# Altium integrated library NSC Peripheral Disk Pulse Detector.IntLib: 5 symbols
Pins are listed as number, name and electrical type; pins without a type are passive.

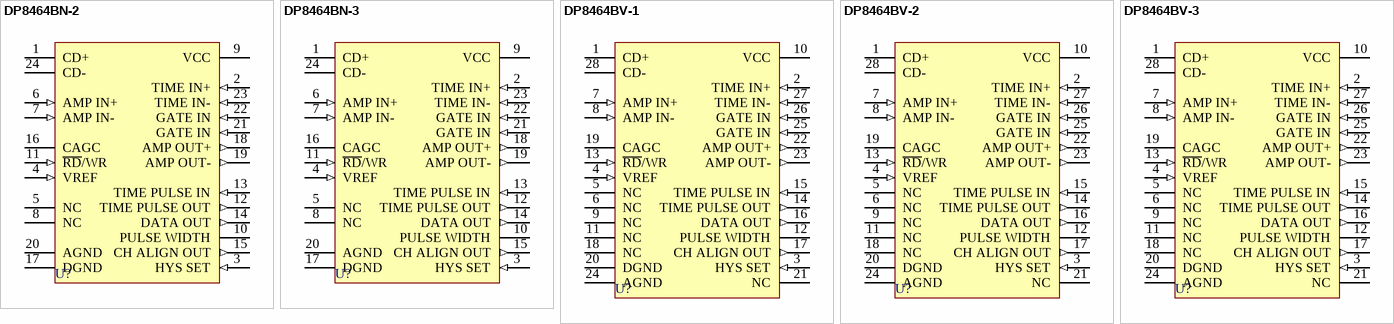
[diagram p0: symbols DP8464BN-2 to DP8464BV-3]

## DP8464BN-2
designator U?
Disk Pulse Detector; Published: 15-Apr-2002; LatestRevisionDate: 06-Jun-2005; LatestRevisionNote: Stylized 3D Model Added.; DatasheetVersion: Jun-1989; PackageVersion: 2000; PackageReference: N24C; Publisher: Altium Limited; PackageDescription: DIP; 24 Leads; Row Spacing 7.62 mm; Pitch 2.54 mm; Code_JEDEC: MS-001-AF; ComponentLink1Description: Manufacturer Link; ComponentLink1URL: http://www.national.com/
footprint N24C (DIP; 24 Leads; Row Spacing 7.62 mm; Pitch 2.54 mm)
3D model N24C (DIP; 24 Leads; Row Spacing 7.62 mm; Pitch 2.54 mm)
pins: 1 CD+, 2 TIME IN+ (in), 3 HYS SET (in), 4 VREF (in), 5 NC, 6 AMP IN+ (in), 7 AMP IN- (in), 8 NC, 9 VCC (power), 10 PULSE WIDTH, 11 ~{RD}/WR (in), 12 TIME PULSE OUT (out), 13 TIME PULSE IN (in), 14 DATA OUT (out), 15 CH ALIGN OUT (out), 16 CAGC, 17 DGND (power), 18 AMP OUT+ (out), 19 AMP OUT- (out), 20 AGND (power), 21 GATE IN (in), 22 GATE IN (in), 23 TIME IN- (in), 24 CD-

## DP8464BN-3
designator U?
Disk Pulse Detector; ComponentAvailability: Obsolete; Published: 15-Apr-2002; LatestRevisionDate: 06-Jun-2005; LatestRevisionNote: Stylized 3D Model Added.; DatasheetVersion: Jun-1989; PackageVersion: 2000; PackageReference: N24C; Publisher: Altium Limited; PackageDescription: DIP; 24 Leads; Row Spacing 7.62 mm; Pitch 2.54 mm; Code_JEDEC: MS-001-AF; ComponentLink1Description: Manufacturer Link; ComponentLink1URL: http://www.national.com/; ComponentLink2Description: Discontinuation Notice; ComponentLink2URL: http://www.national.com/obs/obsolescence.txt
footprint N24C (DIP; 24 Leads; Row Spacing 7.62 mm; Pitch 2.54 mm)
3D model N24C (DIP; 24 Leads; Row Spacing 7.62 mm; Pitch 2.54 mm)
pins: 1 CD+, 2 TIME IN+ (in), 3 HYS SET (in), 4 VREF (in), 5 NC, 6 AMP IN+ (in), 7 AMP IN- (in), 8 NC, 9 VCC (power), 10 PULSE WIDTH, 11 ~{RD}/WR (in), 12 TIME PULSE OUT (out), 13 TIME PULSE IN (in), 14 DATA OUT (out), 15 CH ALIGN OUT (out), 16 CAGC, 17 DGND (power), 18 AMP OUT+ (out), 19 AMP OUT- (out), 20 AGND (power), 21 GATE IN (in), 22 GATE IN (in), 23 TIME IN- (in), 24 CD-

## DP8464BV-1
designator U?
Disk Pulse Detector; ComponentAvailability: Obsolete; Published: 15-Apr-2002; LatestRevisionDate: 13-Apr-2006; LatestRevisionNote: IPC-7351 Footprint Added.; DatasheetVersion: Jun-1989; PackageVersion: 2000; PackageReference: V28A; Publisher: Altium Limited; PackageDescription: 28-Pin Leaded Chip Carrier 1.27 mm Pitch; Code_IPC: PLCC-28; ComponentLink1Description: Manufacturer Link; ComponentLink1URL: http://www.national.com/; ComponentLink2Description: Discontinuation Notice; ComponentLink2URL: http://www.national.com/obs/obsolescence.txt
footprint V28A_N (Leaded Chip Carrier, 28-Leads, Body 11.5x11.5mm, Pitch 1.27mm, IPC Medium Density)
footprint V28A_L (Leaded Chip Carrier, 28-Leads, Body 11.5x11.5mm, Pitch 1.27mm, IPC High Density)
footprint V28A_M (Leaded Chip Carrier, 28-Leads, Body 11.5x11.5mm, Pitch 1.27mm, IPC Low Density)
3D model DP8464-V28A (28-Pin Leaded Chip Carrier 1.27 mm Pitch)
pins: 1 CD+, 2 TIME IN+ (in), 3 HYS SET (in), 4 VREF (in), 5 NC, 6 NC, 7 AMP IN+ (in), 8 AMP IN- (in), 9 NC, 10 VCC (power), 11 NC, 12 PULSE WIDTH, 13 ~{RD}/WR (in), 14 TIME PULSE OUT (out), 15 TIME PULSE IN (in), 16 DATA OUT (out), 17 CH ALIGN OUT (out), 18 NC, 19 CAGC, 20 DGND (power), 21 NC, 22 AMP OUT+ (out), 23 AMP OUT- (out), 24 AGND (power), 25 GATE IN (in), 26 GATE IN (in), 27 TIME IN- (in), 28 CD-

## DP8464BV-2
designator U?
Disk Pulse Detector; ComponentAvailability: Obsolete; Published: 15-Apr-2002; LatestRevisionDate: 13-Apr-2006; LatestRevisionNote: IPC-7351 Footprint Added.; DatasheetVersion: Jun-1989; PackageVersion: 2000; PackageReference: V28A; Publisher: Altium Limited; PackageDescription: 28-Pin Leaded Chip Carrier 1.27 mm Pitch; Code_IPC: PLCC-28; ComponentLink1Description: Manufacturer Link; ComponentLink1URL: http://www.national.com/; ComponentLink2Description: Discontinuation Notice; ComponentLink2URL: http://www.national.com/obs/obsolescence.txt
footprint V28A_N (Leaded Chip Carrier, 28-Leads, Body 11.5x11.5mm, Pitch 1.27mm, IPC Medium Density)
footprint V28A_L (Leaded Chip Carrier, 28-Leads, Body 11.5x11.5mm, Pitch 1.27mm, IPC High Density)
footprint V28A_M (Leaded Chip Carrier, 28-Leads, Body 11.5x11.5mm, Pitch 1.27mm, IPC Low Density)
3D model DP8464-V28A (28-Pin Leaded Chip Carrier 1.27 mm Pitch)
pins: 1 CD+, 2 TIME IN+ (in), 3 HYS SET (in), 4 VREF (in), 5 NC, 6 NC, 7 AMP IN+ (in), 8 AMP IN- (in), 9 NC, 10 VCC (power), 11 NC, 12 PULSE WIDTH, 13 ~{RD}/WR (in), 14 TIME PULSE OUT (out), 15 TIME PULSE IN (in), 16 DATA OUT (out), 17 CH ALIGN OUT (out), 18 NC, 19 CAGC, 20 DGND (power), 21 NC, 22 AMP OUT+ (out), 23 AMP OUT- (out), 24 AGND (power), 25 GATE IN (in), 26 GATE IN (in), 27 TIME IN- (in), 28 CD-

## DP8464BV-3
designator U?
Disk Pulse Detector; ComponentAvailability: Obsolete; Published: 15-Apr-2002; LatestRevisionDate: 13-Apr-2006; LatestRevisionNote: IPC-7351 Footprint Added.; DatasheetVersion: Jun-1989; PackageVersion: 2000; PackageReference: V28A; Publisher: Altium Limited; PackageDescription: 28-Pin Leaded Chip Carrier 1.27 mm Pitch; Code_IPC: PLCC-28; ComponentLink1Description: Manufacturer Link; ComponentLink1URL: http://www.national.com/; ComponentLink2Description: Discontinuation Notice; ComponentLink2URL: http://www.national.com/obs/obsolescence.txt
footprint V28A_N (Leaded Chip Carrier, 28-Leads, Body 11.5x11.5mm, Pitch 1.27mm, IPC Medium Density)
footprint V28A_L (Leaded Chip Carrier, 28-Leads, Body 11.5x11.5mm, Pitch 1.27mm, IPC High Density)
footprint V28A_M (Leaded Chip Carrier, 28-Leads, Body 11.5x11.5mm, Pitch 1.27mm, IPC Low Density)
3D model DP8464-V28A (28-Pin Leaded Chip Carrier 1.27 mm Pitch)
pins: 1 CD+, 2 TIME IN+ (in), 3 HYS SET (in), 4 VREF (in), 5 NC, 6 NC, 7 AMP IN+ (in), 8 AMP IN- (in), 9 NC, 10 VCC (power), 11 NC, 12 PULSE WIDTH, 13 ~{RD}/WR (in), 14 TIME PULSE OUT (out), 15 TIME PULSE IN (in), 16 DATA OUT (out), 17 CH ALIGN OUT (out), 18 NC, 19 CAGC, 20 DGND (power), 21 NC, 22 AMP OUT+ (out), 23 AMP OUT- (out), 24 AGND (power), 25 GATE IN (in), 26 GATE IN (in), 27 TIME IN- (in), 28 CD-